# Altium footprint library CONN_M.2_PCBEDGE.PcbLib: 1 footprints
Each footprint in its own frame and in the unit in brackets; x right, y up, seen from the top. Pads: shape width x height; smd on the part's side, far side on the other; paste and mask are expansions set on the pad; w line width, h text height; cw(c..) or ccw(c..) is an arc to the next point about the centre after c.
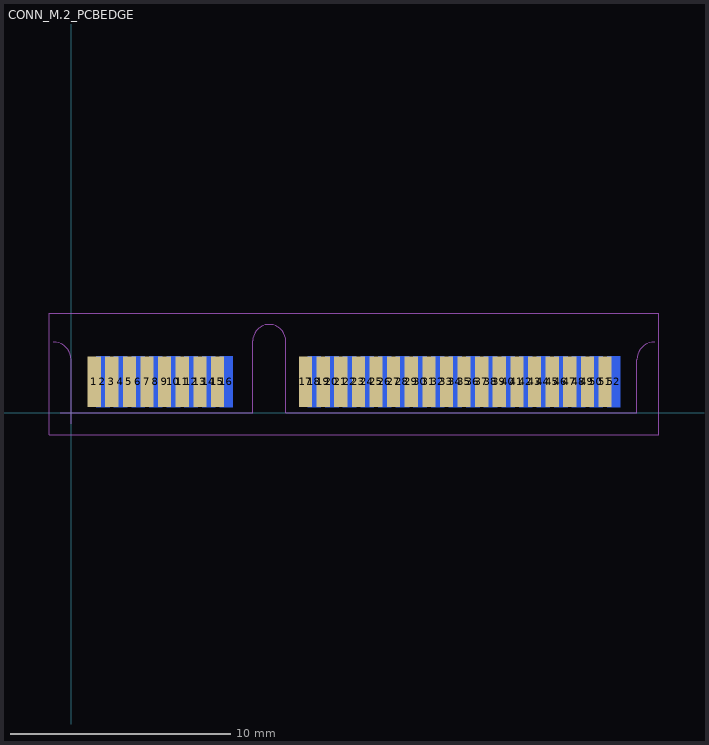
[diagram p0: the footprint, top view; thin cyan lines are the x and y axes]

## CONN_M.2_PCBEDGE [mm] "CONN_M.2_PCBEDGE"
pads (52):
  rect 0.6x2.3 smd: 1(1.05,1.4) 3(1.85,1.4) 5(2.65,1.4) 7(3.45,1.4) 9(4.25,1.4) 11(5.05,1.4) 13(5.85,1.4) 15(6.65,1.4) 17(10.65,1.4) 19(11.45,1.4) 21(12.25,1.4) 23(13.05,1.4) 25(13.85,1.4) 27(14.65,1.4) 29(15.45,1.4) 31(16.25,1.4) 33(17.05,1.4) 35(17.85,1.4) 37(18.65,1.4) 39(19.45,1.4) 41(20.25,1.4) 43(21.05,1.4) 45(21.85,1.4) 47(22.65,1.4) 49(23.45,1.4) 51(24.25,1.4)
  rect 0.6x2.3 smd far side: 2(1.45,1.4) 4(2.25,1.4) 6(3.05,1.4) 8(3.85,1.4) 10(4.65,1.4) 12(5.45,1.4) 14(6.25,1.4) 16(7.05,1.4) 18(11.05,1.4) 20(11.85,1.4) 22(12.65,1.4) 24(13.45,1.4) 26(14.25,1.4) 28(15.05,1.4) 30(15.85,1.4) 32(16.65,1.4) 34(17.45,1.4) 36(18.25,1.4) 38(19.05,1.4) 40(19.85,1.4) 42(20.65,1.4) 44(21.45,1.4) 46(22.25,1.4) 48(23.05,1.4) 50(23.85,1.4) 52(24.65,1.4)
Mechanical 4:
  lines w0.01: -0.8,3.2 cw(c-0.8,2.4) 0,2.4 0,0 8.25,0 8.25,3.25 cw(c9,3.25) 9.75,3.25 9.75,0 25.7,0 25.7,2.4 cw(c26.5,2.4) 26.5,3.2
Mechanical 15:
  lines w0.05: -0.5,0 0.5,0 ; 0,-0.5 0,0.5 ; -1,-1 -1,4.5 26.7,4.5 26.7,-1 -1,-1